# EAGLE library part IRIDIUM_9603 (library Ava)
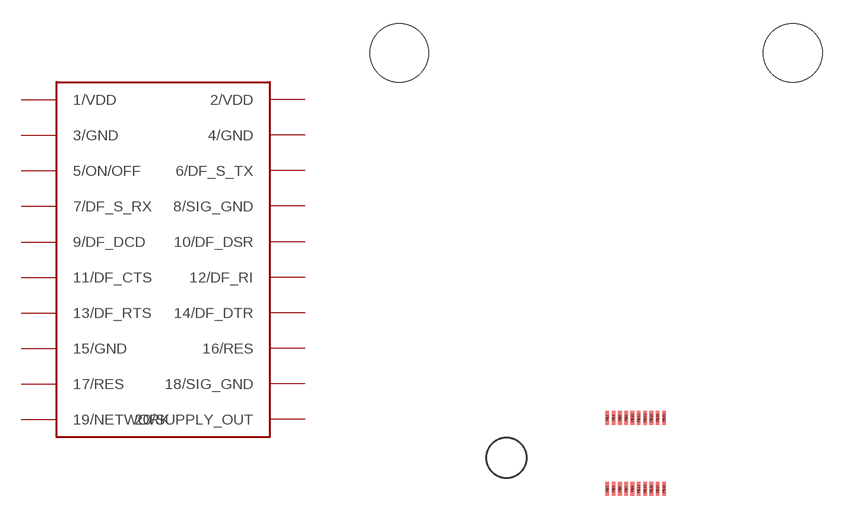
[diagram p50: symbol with the pads of IRIDIUM9603; footprint IRIDIUM9603]

Designator prefix -

## IRIDIUM_9603  [IRIDIUM9603]
P$1  1/VDD  pwr
P$2  2/VDD  pwr
P$3  3/GND  pwr
P$4  4/GND  pwr
P$5  5/ON/OFF  in
P$6  6/DF_S_TX  in
P$7  7/DF_S_RX  out
P$8  8/SIG_GND
P$9  9/DF_DCD
P$10  10/DF_DSR
P$11  11/DF_CTS
P$12  12/DF_RI
P$13  13/DF_RTS
P$14  14/DF_DTR
P$15  15/GND  pwr
P$16  16/RES  nc
P$17  17/RES  nc
P$18  18/SIG_GND  pwr
P$19  19/NETWORK
P$20  20/SUPPLY_OUT

## Footprint IRIDIUM9603 (pad centres in mm)
smd 0.23 x 0.89: P$1 0.74,-14.81; P$2 0.74,-10.3; P$3 1.14,-14.81; P$4 1.14,-10.3; P$5 1.54,-14.81; P$6 1.54,-10.3; P$7 1.94,-14.81; P$8 1.94,-10.3; P$9 2.34,-14.81; P$10 2.34,-10.3; P$11 2.74,-14.81; P$12 2.74,-10.3; P$13 3.14,-14.81; P$14 3.14,-10.3; P$15 3.54,-14.81; P$16 3.54,-10.3; P$17 3.94,-14.81; P$18 3.94,-10.3; P$19 4.34,-14.81; P$20 4.34,-10.3
hole 3.73 at 12.53,12.89
hole 3.73 at -12.47,12.89